# EAGLE library part 43045-20 (library con-molex-micro-fit)
HEADER
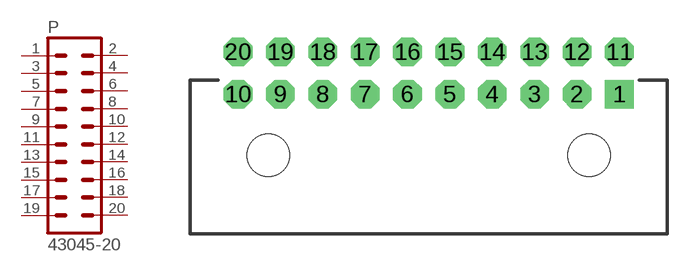
[diagram p7: symbol with the pads of 43045-20; footprint 43045-20]

Designator prefix P

## 43045-20  [43045-20]
1  1  pas
2  2  pas
3  3  pas
4  4  pas
5  5  pas
6  6  pas
7  7  pas
8  8  pas
9  9  pas
10  10  pas
11  11  pas
12  12  pas
13  13  pas
14  14  pas
15  15  pas
16  16  pas
17  17  pas
18  18  pas
19  19  pas
20  20  pas

## Footprint 43045-20 (pad centres in mm)
HEADER
drill 1.016 pad 2.032 square: 1 13.5,0
drill 1.016 pad 2.032 octagon: 2 10.5,0; 3 7.5,0; 4 4.5,0; 5 1.5,0; 6 -1.5,0; 7 -4.5,0; 8 -7.5,0; 9 -10.5,0; 10 -13.5,0; 11 13.5,3; 12 10.5,3; 13 7.5,3; 14 4.5,3; 15 1.5,3; 16 -1.5,3; 17 -4.5,3; 18 -7.5,3; 19 -10.5,3; 20 -13.5,3
hole 3 at -11.35,-4.32
hole 3 at 11.35,-4.32